# Altium footprint library LED3MM.PcbLib: 3 footprints
Each footprint in its own frame and in the unit in brackets; x right, y up, seen from the top. Pads: shape width x height; smd on the part's side, far side on the other; paste and mask are expansions set on the pad; w line width, h text height; cw(c..) or ccw(c..) is an arc to the next point about the centre after c.
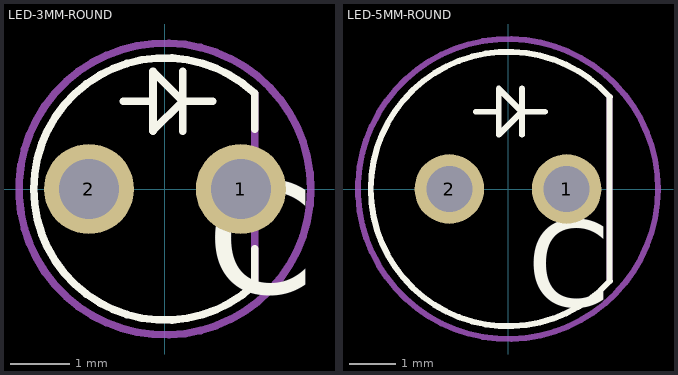
[diagram p0: the footprints below, top view; thin cyan lines are the x and y axes]

## LED-3MM-ROUND [mm]
pads (2):
  round 1.508 hole 1: 1(1.27,0) 2(-1.27,0)
Top Overlay:
  lines w0.127: -0.7,1.47 -0.2,1.47 ; 0.3,0.97 0.3,1.47 ; 0.3,1.97 0.3,1.47 ; 0.8,1.47 0.3,1.47 ; 1.496,-1.604 cw(c0,0) 1.496,1.604 ; 1.5,-1.6 1.5,-1 ; 1.5,1 1.5,1.6 ; -0.2,1.47 -0.2,1.97 0.3,1.47 ; -0.2,1.47 -0.2,0.97 0.3,1.47
  text "C" at 0.701,-1.752 h1.88
Mechanical 1:
  lines w0.127: 1.5,-1.6 1.5,1.6
Mechanical 4:
  circle w0.127: c0,0 r2.44

## LED-5MM-ROUND [mm]
pads (2):
  round 1.508 hole 1: 1(1.27,0) 2(-1.27,0)
Top Overlay:
  lines w0.127: -0.7,1.675 -0.2,1.675 ; 0.3,1.175 0.3,1.675 ; 0.3,2.175 0.3,1.675 ; 0.8,1.675 0.3,1.675 ; 2.2,-2 2.2,2 ; -0.2,1.675 -0.2,2.175 0.3,1.675 ; -0.2,1.675 -0.2,1.175 0.3,1.675 ; 2.21,-1.989 cw(c0,0) 2.21,1.989 ccw(c0,0) 2.21,-1.989
  text "C" at 0.42,-2.552 h1.88
Mechanical 1:
  lines w0.127: 2.2,-2 2.2,2
Mechanical 4:
  circle w0.127: c0,0 r3.25

## PCBComponent_1 [mil]